# EAGLE library part ULN2003APW (library ULN2003APW)
Check prices <https://pricing.snapeda.com/parts/ULN2003APW/Texas%20Instruments/view-part?ref=eda>
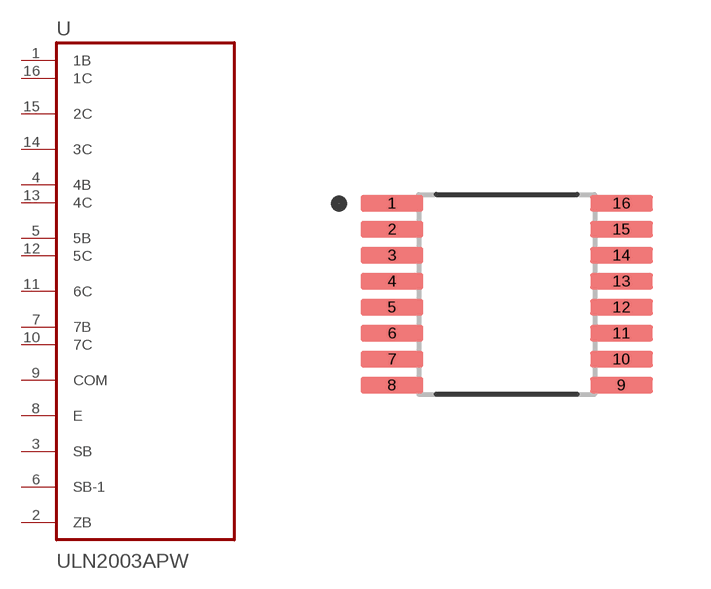
[diagram p0: symbol with the pads of SOP65P640X120-16N; footprint SOP65P640X120-16N]

Designator prefix U

## ULN2003APW (Availability: Good; Description: 50-V, 7-ch darlington transistor array, -20C to 70C 16-TSSOP -40 to 70; MF: Texas Instruments; MP: ULN2003APW; Package: TSSOP-16 Texas Instruments; Price: None; Purchase-URL: https://pricing.snapeda.com/search/part/ULN2003APW/?ref=eda)  [SOP65P640X120-16N]
1  1B
2  ZB
3  SB
4  4B
5  5B
6  SB-1
7  7B
8  E
9  COM
10  7C
11  6C
12  5C
13  4C
14  3C
15  2C
16  1C

## Footprint SOP65P640X120-16N (pad centres in mm)
smd 1.57 x 0.41: 1 -2.87,2.275; 2 -2.87,1.625; 3 -2.87,0.975; 4 -2.87,0.325; 5 -2.87,-0.325; 6 -2.87,-0.975; 7 -2.87,-1.625; 8 -2.87,-2.275; 9 2.87,-2.275; 10 2.87,-1.625; 11 2.87,-0.975; 12 2.87,-0.325; 13 2.87,0.325; 14 2.87,0.975; 15 2.87,1.625; 16 2.87,2.275